# Altium integrated library ECS-.327-12.5-34B-C-TR.IntLib: 1 symbol
Pins are listed as number, name and electrical type; pins without a type are passive.

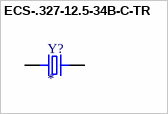
[diagram p0: symbol ECS-.327-12.5-34B-C-TR]

## ECS-.327-12.5-34B-C-TR
designator Y?
Crystal  2-SMD, No Lead; MP: ECS-.327-12.5-34B-C-TR; Package: None; Price: None; Value: *; Availability: Unavailable
footprint XTAL_ECS-.327-12.5-34B-C-TR
pins: 1, 2